# Altium schematic symbol library TDK_InvenSense.SchLib: 2 symbols
Pins are listed as number, name and electrical type; pins without a type are passive.

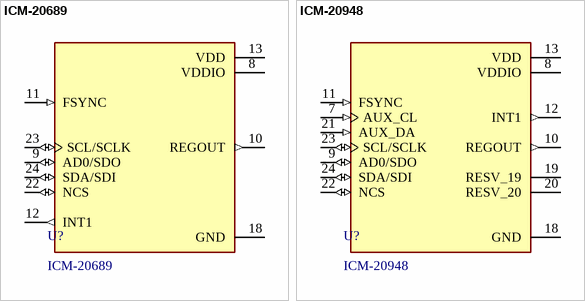
[diagram p0: symbols ICM-20689 to ICM-20948]

## ICM-20689
designator U?
IMU ACCEL/GYRO/COMPI2C/SPI 24QFN; Supplier 1: Digi-Key; Supplier Part Number 1: 1428-1059-6-ND
pins: 8 VDDIO (power), 9 AD0/SDO (io), 10 REGOUT (out), 11 FSYNC (in), 12 INT1 (out), 13 VDD (power), 18 GND (power), 22 NCS (io), 23 SCL/SCLK (io), 24 SDA/SDI (io)

## ICM-20948
designator U?
IMU ACCEL/GYRO/COMPI2C/SPI 24QFN; Manufacturer: TDK InvenSense; Categories: Sensors, Transducers; Sensor Type: Accelerometer, Gyroscope, Magnetometer, 9 Axis; Output Type: I²C, SPI; Supplier 1: Digi-Key; Manufacturer Part Number: ICM-20948; Stock 1: 0; Pricing 1: 1=7.31, 5=6.45, 10=5.698, 25=4.6224, 50=4.085, 100=3.9775, 500=3.3325, 1000=3.1175 (USD); Series: -; Packaging: Digi-Reel®; Part Status: Active; Operating Temperature: -40°C ~ 85°C; Package / Case: 24-TFQFN Module Exposed Pad; Supplier Device Package: 24-QFN (3x3); Mounting Type: Surface Mount; ComponentLink1URL: https://www.invensense.com/wp-content/uploads/2016/06/App-Note-eMD-20x48-User-Guide.pdf?src-supplier=Avnet; ComponentLink1Description: https://www.invensense.com/wp-content/uploads/2016/06/App-Note-eMD-20x48-User-Guide.pdf?src-supplier=Avnet; ComponentLink2URL: https://www.invensense.com/wp-content/uploads/2016/06/App-Note-eMD-20x48-User-Guide.pdf?src-supplier=Avnet+Europe; ComponentLink2Description: https://www.invensense.com/wp-content/uploads/2016/06/App-Note-eMD-20x48-User-Guide.pdf?src-supplier=Avnet+Europe; ComponentLink3URL: https://www.invensense.com/wp-content/uploads/2016/06/App-Note-eMD-20x48-User-Guide.pdf?src-supplier=Digi-Key; ComponentLink3Description: https://www.invensense.com/wp-content/uploads/2016/06/App-Note-eMD-20x48-User-Guide.pdf?src-supplier=Digi-Key; ComponentLink4URL: http://www.farnell.com/datasheets/2632662.pdf?src-supplier=Farnell; ComponentLink4Description: http://www.farnell.com/datasheets/2632662.pdf?src-supplier=Farnell; ComponentLink5URL: http://www.farnell.com/datasheets/2632662.pdf?src-supplier=Element14; ComponentLink5Description: http://www.farnell.com/datasheets/2632662.pdf?src-supplier=Element14; ComponentLink6URL: http://www.farnell.com/datasheets/2632662.pdf?src-supplier=Newark; ComponentLink6Description: http://www.farnell.com/datasheets/2632662.pdf?src-supplier=Newark; ComponentLink7URL: https://www.invensense.com/wp-content/uploads/2016/06/App-Note-eMD-20x48-User-Guide.pdf?src-supplier=Component+Distributors+Inc.; ComponentLink7Description: https://www.invensense.com/wp-content/uploads/2016/06/App-Note-eMD-20x48-User-Guide.pdf?src-supplier=Component+Distributors+Inc.; Supplier Part Number 1: 1428-1123-1-ND
footprint ICM-20948
pins: 7 AUX_CL (in), 8 VDDIO (power), 9 AD0/SDO (io), 10 REGOUT (out), 11 FSYNC (in), 12 INT1 (out), 13 VDD (power), 18 GND (power), 19 RESV_19, 20 RESV_20, 21 AUX_DA (in), 22 NCS (io), 23 SCL/SCLK (io), 24 SDA/SDI (io)